# EAGLE library part BO2057 (library satellite)
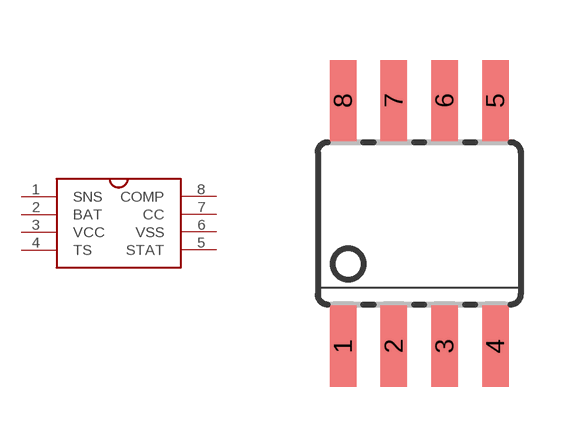
[diagram p23: symbol with the pads of SOIC-8; footprint SOIC-8]

Designator prefix -

## BO2057  [SOIC-8]
1  SNS
2  BAT  pwr
3  VCC  pwr
4  TS
5  STAT
6  VSS  pwr
7  CC
8  COMP

## Footprint SOIC-8 (pad centres in mm)
smd 0.66 x 2.032: 1 -1.905,-3.073; 2 -0.635,-3.073; 3 0.635,-3.073; 4 1.905,-3.073; 5 1.905,3.073; 6 0.635,3.073; 7 -0.635,3.073; 8 -1.905,3.073